# Altium schematic symbol library 47uF Capacitor.SchLib: 1 symbol
Pins are listed as number, name and electrical type; pins without a type are passive.

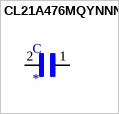
[diagram p0: symbol CL21A476MQYNNNG]

## CL21A476MQYNNNG
designator C
47ÂµF Â±20% 6.3V Ceramic Capacitor X5R 0805 _2012 Metric_; MF: Samsung Electro-Mechanics; MP: CL21A476MQYNNNG; Digi-Key_Part_Number: 1276-6467-1-ND; SnapEDA_Link: https://www.snapeda.com/parts/CL21A476MQYNNNG/Samsung%20Electro-Mechanics/view-part/3597942/?ref=snap; Value: *; Package: 0805 Samsung; Digi-Key_Purchase_URL: https://www.digikey.com/product-detail/en/samsung-electro-mechanics/CL21A476MQYNNNG/1276-6467-1-ND/5958095?utm_source=snapeda&utm_medium=aggregator&utm_campaign=symbol
footprint CAPC2012X135N
pins: 1, 2